# Altium schematic symbol library WCAP-ATG8_25V.SchLib: 8 symbols
Pins are listed as number, name and electrical type; pins without a type are passive.

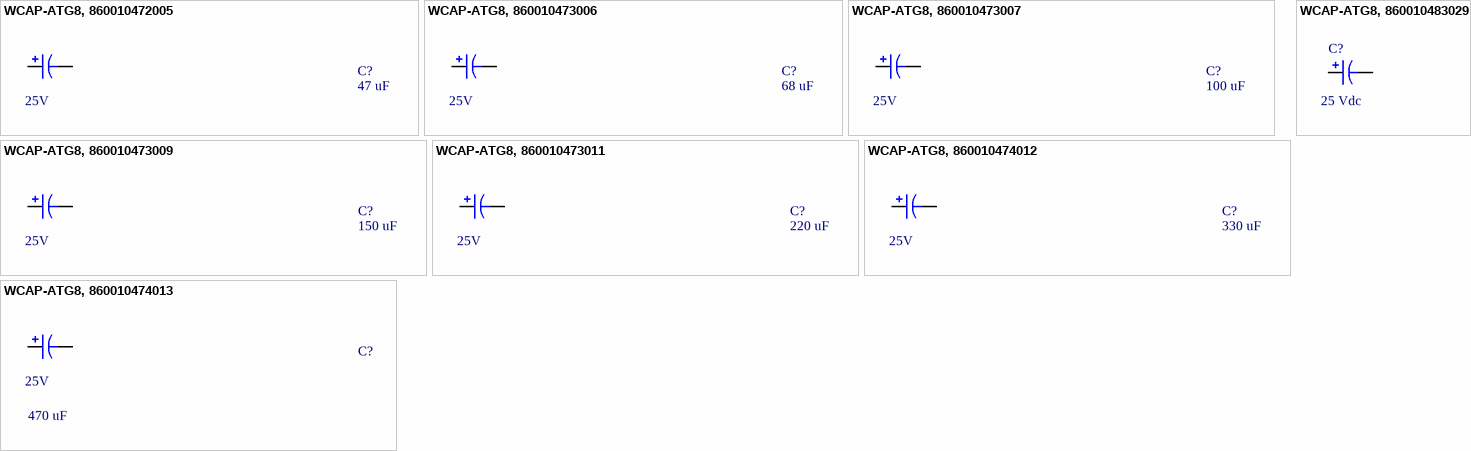
[diagram p0: symbols WCAP-ATG8, 860010472005 to WCAP-ATG8, 860010483029]

## WCAP-ATG8, 860010472005
designator C?, comment 47 uF  RatedVoltage: 25V
CAP Alu 47 UF 20% 25 V; Manufacturer: Wurth Elektronik; Manufacturer Part Number: 860010472005; PublishedDate: July 2016; ComponentLink1Description: Manufacturer; ComponentLink1URL: http://www.we-online.de; ComponentLink2Description: Datasheet; ComponentLink2URL: http://katalog.we-online.de/pbs/datasheet/860010472005.pdf; Value: 47 uF; Size: 5mmx11mm
footprint WCAP-ATG8_5x11x2x0.5
pins: 1, 2

## WCAP-ATG8, 860010473006
designator C?, comment 68 uF  RatedVoltage: 25V
CAP Alu 68 UF 20% 25 V; Manufacturer: Wurth Elektronik; Manufacturer Part Number: 860010473006; PublishedDate: July 2016; ComponentLink1Description: Manufacturer; ComponentLink1URL: http://www.we-online.de; ComponentLink2Description: Datasheet; ComponentLink2URL: http://katalog.we-online.de/pbs/datasheet/860010473006.pdf; Value: 68 uF; Size: 6.3mmx11mm
footprint WCAP-ATG8_6.3x11x2.5x0.5
pins: 1, 2

## WCAP-ATG8, 860010473007
designator C?, comment 100 uF  RatedVoltage: 25V
CAP Alu 100 UF 20% 25 V; Manufacturer: Wurth Elektronik; Manufacturer Part Number: 860010473007; PublishedDate: July 2016; ComponentLink1Description: Manufacturer; ComponentLink1URL: http://www.we-online.de; ComponentLink2Description: Datasheet; ComponentLink2URL: http://katalog.we-online.de/pbs/datasheet/860010473007.pdf; Value: 100 uF; Size: 6.3mmx11mm
footprint WCAP-ATG8_6.3x11x2.5x0.5
pins: 1, 2

## WCAP-ATG8, 860010473009
designator C?, comment 150 uF  RatedVoltage: 25V
CAP Alu 150 UF 20% 25 V; Manufacturer: Wurth Elektronik; Manufacturer Part Number: 860010473009; PublishedDate: July 2016; ComponentLink1Description: Manufacturer; ComponentLink1URL: http://www.we-online.de; ComponentLink2Description: Datasheet; ComponentLink2URL: http://katalog.we-online.de/pbs/datasheet/860010473009.pdf; Value: 150 uF; Size: 6.3mmx11mm
footprint WCAP-ATG8_6.3x11x2.5x0.5
pins: 1, 2

## WCAP-ATG8, 860010473011
designator C?, comment 220 uF  RatedVoltage: 25V
CAP Alu 220 UF 20% 25 V; Manufacturer: Wurth Elektronik; Manufacturer Part Number: 860010473011; PublishedDate: July 2016; ComponentLink1Description: Manufacturer; ComponentLink1URL: http://www.we-online.de; ComponentLink2Description: Datasheet; ComponentLink2URL: http://katalog.we-online.de/pbs/datasheet/860010473011.pdf; Value: 220 uF; Size: 6.3mmx11mm
footprint WCAP-ATG8_6.3x11x2.5x0.5
pins: 1, 2

## WCAP-ATG8, 860010474012
designator C?, comment 330 uF  RatedVoltage: 25V
CAP Alu 330 UF 20% 25 V; Manufacturer: Wurth Elektronik; Manufacturer Part Number: 860010474012; PublishedDate: July 2016; ComponentLink1Description: Manufacturer; ComponentLink1URL: http://www.we-online.de; ComponentLink2Description: Datasheet; ComponentLink2URL: http://katalog.we-online.de/pbs/datasheet/860010474012.pdf; Value: 330 uF; Size: 8mmx11.5mm
footprint WCAP-ATG8_8x11.5x3.5x0.5
pins: 1, 2

## WCAP-ATG8, 860010474013
designator C?, comment RatedVoltage: 25V  (hidden comment: 470 uF)
CAP Alu 470 UF 20% 25 V; Manufacturer: Wurth Elektronik; Manufacturer Part Number: 860010474013; PublishedDate: July 2016; ComponentLink1Description: Manufacturer; ComponentLink1URL: http://www.we-online.de; ComponentLink2Description: Datasheet; ComponentLink2URL: http://katalog.we-online.de/pbs/datasheet/860010474013.pdf; Size: 8mmx11.5mm; Value: 470 uF
footprint WCAP-ATG8_8x11.5x3.5x0.5
pins: 1, 2

## WCAP-ATG8, 860010483029
designator C?, comment Rated Voltage: 25 Vdc  (hidden comment: 10 mF)
CAP Alu 10'000 UF 25 V; Manufacturer Part Number: 860010483029; Manufacturer: Wurth Elektronik; ComponentLink1Description: Manufacturer; ComponentLink1URL: http://www.we-online.de; ComponentLink2Description: Datasheet; ComponentLink2URL: http://katalog.we-online.de/pbs/datasheet/860010483029.pdf; Published Date: Sep. 2017; Size: 22x41mm; Value: 10 mF
footprint WCAP-ATG8_22x41x10x0.8 (Polarized capacitors, Aluminum Electrolytic Capacitors, 2-Leads, Body 22x41x10x0.8)
pins: 1, 2